# Altium footprint library EsteemPCB_SOM_Course_pcblib.PcbLib: 80 footprints (part 4 of 5)
Each footprint in its own frame and in the unit in brackets; x right, y up, seen from the top. Pads: shape width x height; smd on the part's side, far side on the other; paste and mask are expansions set on the pad; w line width, h text height; cw(c..) or ccw(c..) is an arc to the next point about the centre after c.
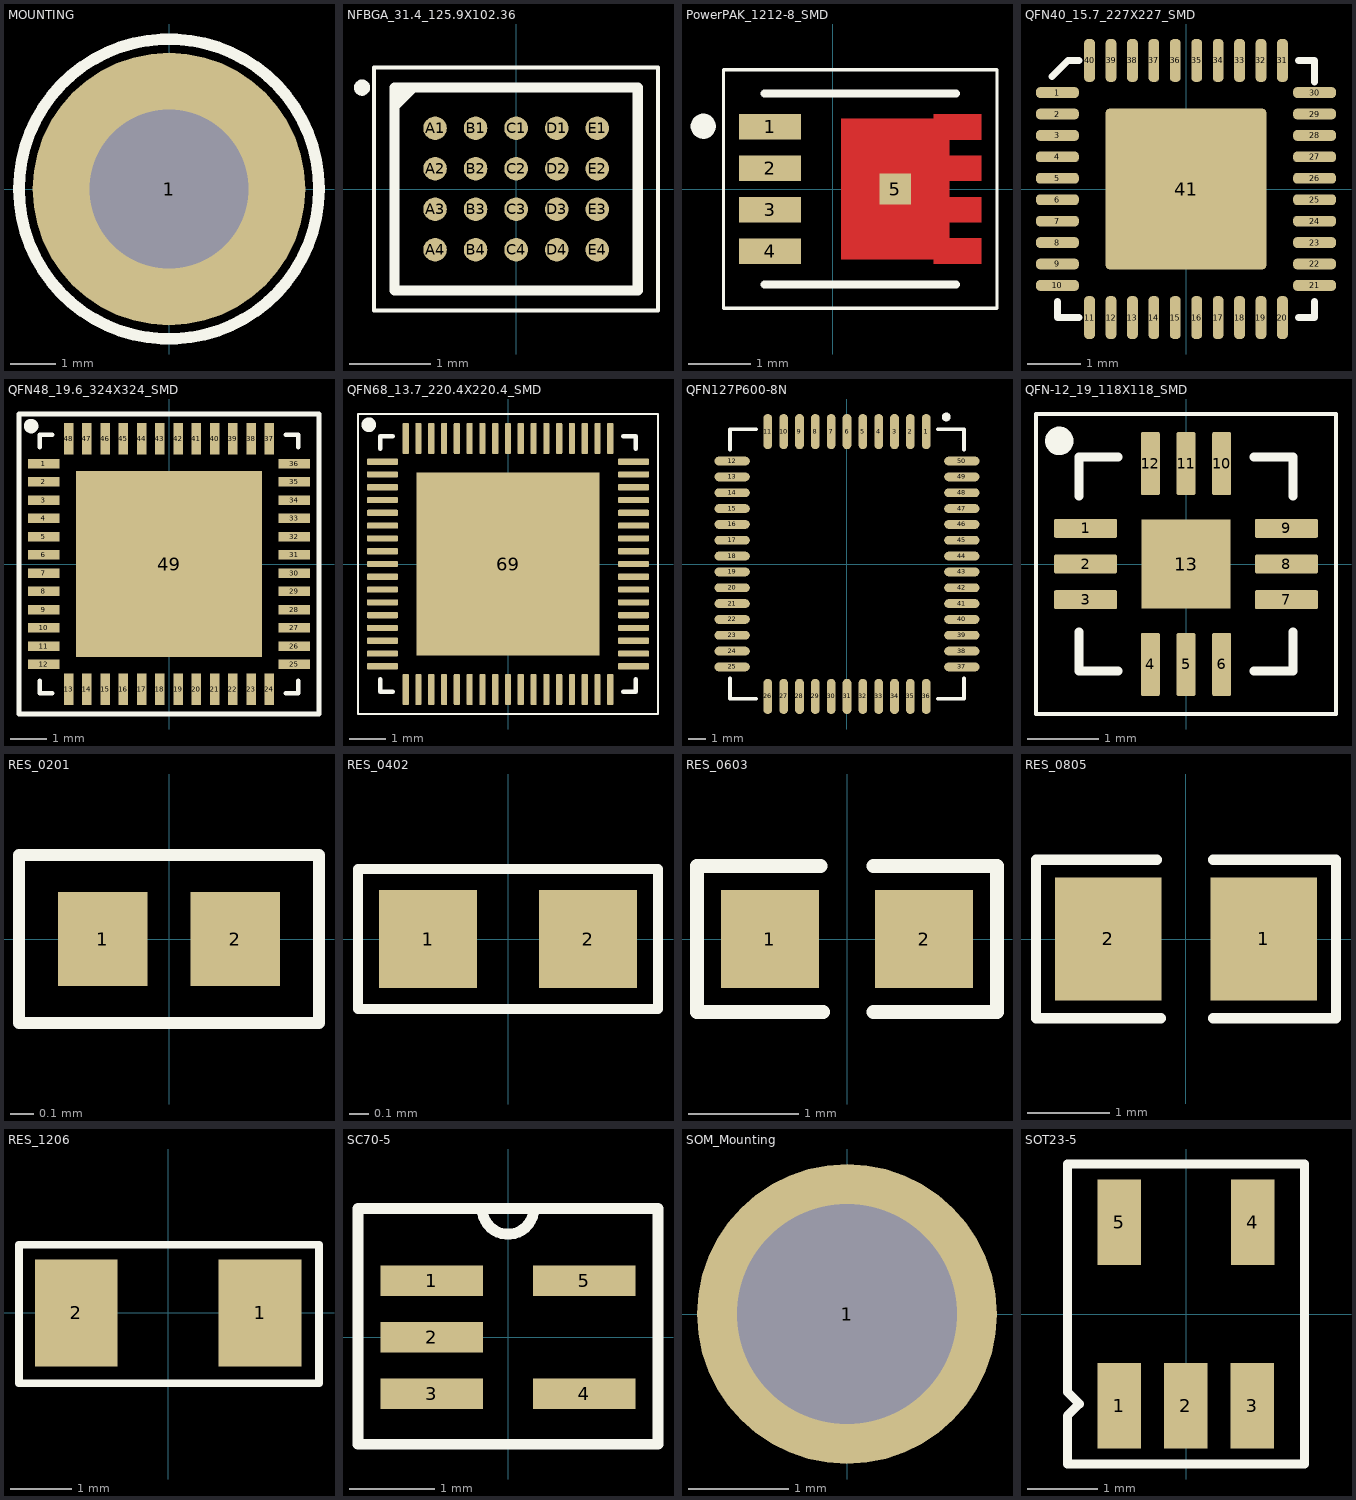
[diagram p3: the footprints below, top view; thin cyan lines are the x and y axes]

## MOUNTING [mm] "MH"
height 4.8
pads (1):
  round 6 hole 3.5: 1(0,0)
Top Overlay:
  circle w0.254: c0,0 r3.3
3D body "093108__3__5-mattssons.step": height 4.24, standoff -2.76, extent -2.998,-2.75 2.998,2.75

## NFBGA_31.4_125.9X102.36 [mm] "BGA, 20-Leads, Body 3.00x2.50mmx0.80mm, Pitch 0.50mm"
height 0.8
pads (20):
  round 0.29 smd: A1(-1,0.75) A2(-1,0.25) A3(-1,-0.25) A4(-1,-0.75) B1(-0.5,0.75) B2(-0.5,0.25) B3(-0.5,-0.25) B4(-0.5,-0.75) C1(0,0.75) C2(0,0.25) C3(0,-0.25) C4(0,-0.75) D1(0.5,0.75) D2(0.5,0.25) D3(0.5,-0.25) D4(0.5,-0.75) E1(1,0.75) E2(1,0.25) E3(1,-0.25) E4(1,-0.75)
Top Overlay:
  circle w0.1: c-1.9,1.25 r0.05
  region: -1.271,1.25 -1.5,1.021 -1.5,1.25
  lines w0.05: -1.75,-1.5 -1.75,1.5 1.75,1.5 1.75,-1.5 -1.75,-1.5
  lines w0.125: -1.5,1.021 -1.271,1.25 ; -1.5,-1.25 -1.5,1.25 1.5,1.25 1.5,-1.25 -1.5,-1.25
3D body "NFBGA_31.4.step": height 0.8, standoff 0, extent -1.5,-1.25 1.5,1.25

## PowerPAK_1212-8_SMD [mm] "Mosfet"
pads (5):
  rect 0.99x0.405 smd: 1(-0.996,0.99) 2(-0.996,0.33) 3(-0.996,-0.33) 4(-0.996,-0.99)
  rect 0.5x0.5 smd paste-1 mask+0: 5(0.996,0)
Top Layer:
  region: 2.369,0.787 1.859,0.787 1.859,0.533 2.369,0.533 2.369,0.128 1.859,0.128 1.859,-0.128 2.369,-0.128 2.369,-0.533 1.859,-0.533 1.859,-0.787 2.369,-0.787 2.369,-1.195 1.609,-1.195 1.609,-1.118 0.134,-1.118 0.134,1.118 1.609,1.118 1.609,1.195 2.369,1.195
Top Overlay:
  circle w0.2: c-2.061,1 r0.1
  lines w0.05: -1.741,-1.9 -1.741,1.9 2.619,1.9 2.619,-1.9 -1.741,-1.9
  lines w0.127: -1.086,-1.525 1.964,-1.525 ; -1.086,1.525 1.964,1.525
Top Paste:
  region: 1.542,-0.707 0.45,-0.707 0.45,0.707 1.542,0.707
Top Solder:
  region: 2.469,0.687 1.959,0.687 1.959,0.633 2.469,0.633 2.469,0.028 1.959,0.028 1.959,-0.028 2.469,-0.028 2.469,-0.633 1.959,-0.633 1.959,-0.687 2.469,-0.687 2.469,-1.292 1.509,-1.292 1.509,-1.218 0.034,-1.218 0.034,1.218 1.509,1.218 1.509,1.292 2.469,1.292
3D body "User Library-PowerPAK 1212-8-1.step": height 1.05, standoff 0.01, extent -1.16,-1.675 2.14,1.625

## QFN40_15.7_227X227_SMD [mm] "QFN Package"
pads (41):
  rrect75% 0.8x0.2 smd mask+0.076: 1(-2.4,1.8) 2(-2.4,1.4) 3(-2.4,1) 4(-2.4,0.6) 5(-2.4,0.2) 6(-2.4,-0.2) 7(-2.4,-0.6) 8(-2.4,-1) 9(-2.4,-1.4) 10(-2.4,-1.8) 21(2.4,-1.8) 22(2.4,-1.4) 23(2.4,-1) 24(2.4,-0.6) 25(2.4,-0.2) 26(2.4,0.2) 27(2.4,0.6) 28(2.4,1) 29(2.4,1.4) 30(2.4,1.8)
  rrect75% 0.2x0.8 smd mask+0.076: 11(-1.8,-2.4) 12(-1.4,-2.4) 13(-1,-2.4) 14(-0.6,-2.4) 15(-0.2,-2.4) 16(0.2,-2.4) 17(0.6,-2.4) 18(1,-2.4) 19(1.4,-2.4) 20(1.8,-2.4) 31(1.8,2.4) 32(1.4,2.4) 33(1,2.4) 34(0.6,2.4) 35(0.2,2.4) 36(-0.2,2.4) 37(-0.6,2.4) 38(-1,2.4) 39(-1.4,2.4) 40(-1.8,2.4)
  rrect5% 3x3 smd paste-3 mask+0.076: 41(0,0)
Top Overlay:
  lines w0.127: -2.5,2.1 -2.2,2.4 -2,2.4 ; -2.4,-2.1 -2.4,-2.4 -2,-2.4 ; 2.1,-2.4 2.4,-2.4 2.4,-2.1 ; 2.1,2.4 2.4,2.4 2.4,2
3D body "User Library-QFN 40 5x5.step": height 0.74, standoff -0.01, extent -2.501,-2.501 2.501,2.501

## QFN48_19.6_324X324_SMD [mm] "QFN Package"
pads (49):
  rect 0.86x0.26 smd: 1(-3.435,2.75) 2(-3.435,2.25) 3(-3.435,1.75) 4(-3.435,1.25) 5(-3.435,0.75) 6(-3.435,0.25) 7(-3.435,-0.25) 8(-3.435,-0.75) 9(-3.435,-1.25) 10(-3.435,-1.75) 11(-3.435,-2.25) 12(-3.435,-2.75) 25(3.435,-2.75) 26(3.435,-2.25) 27(3.435,-1.75) 28(3.435,-1.25) 29(3.435,-0.75) 30(3.435,-0.25) 31(3.435,0.25) 32(3.435,0.75) 33(3.435,1.25) 34(3.435,1.75) 35(3.435,2.25) 36(3.435,2.75)
  rect 0.26x0.86 smd: 13(-2.75,-3.435) 14(-2.25,-3.435) 15(-1.75,-3.435) 16(-1.25,-3.435) 17(-0.75,-3.435) 18(-0.25,-3.435) 19(0.25,-3.435) 20(0.75,-3.435) 21(1.25,-3.435) 22(1.75,-3.435) 23(2.25,-3.435) 24(2.75,-3.435) 37(2.75,3.435) 38(2.25,3.435) 39(1.75,3.435) 40(1.25,3.435) 41(0.75,3.435) 42(0.25,3.435) 43(-0.25,3.435) 44(-0.75,3.435) 45(-1.25,3.435) 46(-1.75,3.435) 47(-2.25,3.435) 48(-2.75,3.435)
  rect 5.1x5.1 smd: 49(0,0)
Top Overlay:
  circle w0.2: c-3.785,3.785 r0.1
  lines w0.127: -3.55,-3.2 -3.55,-3.55 -3.2,-3.55 ; -3.55,3.2 -3.55,3.55 -3.2,3.55 ; 3.2,-3.55 3.55,-3.55 3.55,-3.2 ; 3.2,3.55 3.55,3.55 3.55,3.2 ; -4.115,-4.115 4.115,-4.115 4.115,4.115 -4.115,4.115 -4.115,-4.115
Top Paste:
  region: -2.085,2.085 -0.465,2.085 -0.465,0.465 -2.085,0.465
  region: 0.465,2.085 2.085,2.085 2.085,0.465 0.465,0.465
  region: -2.085,-0.465 -0.465,-0.465 -0.465,-2.085 -2.085,-2.085
  region: 0.465,-0.465 2.085,-0.465 2.085,-2.085 0.465,-2.085

## QFN68_13.7_220.4X220.4_SMD [mm] "QFN Package"
height 0.8
pads (69):
  rrect25% 0.84x0.17 smd mask+0.076: 1(-3.435,2.8) 2(-3.435,2.45) 3(-3.435,2.1) 4(-3.435,1.75) 5(-3.435,1.4) 6(-3.435,1.05) 7(-3.435,0.7) 8(-3.435,0.35) 9(-3.435,0) 10(-3.435,-0.35) 11(-3.435,-0.7) 12(-3.435,-1.05) 13(-3.435,-1.4) 14(-3.435,-1.75) 15(-3.435,-2.1) 16(-3.435,-2.45) 17(-3.435,-2.8) 35(3.435,-2.8) 36(3.435,-2.45) 37(3.435,-2.1) 38(3.435,-1.75) 39(3.435,-1.4) 40(3.435,-1.05) 41(3.435,-0.7) 42(3.435,-0.35) 43(3.435,0) 44(3.435,0.35) 45(3.435,0.7) 46(3.435,1.05) 47(3.435,1.4) 48(3.435,1.75) 49(3.435,2.1) 50(3.435,2.45) 51(3.435,2.8)
  rrect25% 0.17x0.84 smd mask+0.076: 18(-2.8,-3.435) 19(-2.45,-3.435) 20(-2.1,-3.435) 21(-1.75,-3.435) 22(-1.4,-3.435) 23(-1.05,-3.435) 24(-0.7,-3.435) 25(-0.35,-3.435) 26(0,-3.435) 27(0.35,-3.435) 28(0.7,-3.435) 29(1.05,-3.435) 30(1.4,-3.435) 31(1.75,-3.435) 32(2.1,-3.435) 33(2.45,-3.435) 34(2.8,-3.435) 52(2.8,3.435) 53(2.45,3.435) 54(2.1,3.435) 55(1.75,3.435) 56(1.4,3.435) 57(1.05,3.435) 58(0.7,3.435) 59(0.35,3.435) 60(0,3.435) 61(-0.35,3.435) 62(-0.7,3.435) 63(-1.05,3.435) 64(-1.4,3.435) 65(-1.75,3.435) 66(-2.1,3.435) 67(-2.45,3.435) 68(-2.8,3.435)
  rect 5x5 smd paste-4 mask+0.076: 69(0,0)
Top Overlay:
  circle w0.2: c-3.81,3.81 r0.1
  lines w0.05: -4.105,-4.105 4.105,-4.105 4.105,4.105 -4.105,4.105 -4.105,-4.105
  lines w0.127: -3.5,-3.15 -3.5,-3.5 -3.15,-3.5 ; -3.5,3.15 -3.5,3.5 -3.15,3.5 ; 3.15,-3.5 3.5,-3.5 3.5,-3.15 ; 3.15,3.5 3.5,3.5 3.5,3.15
3D body "User Library-QFN 7x7 22L.step": height 1.3, standoff 0.01, extent -3.505,-3.505 3.505,3.505

## QFN127P600-8N [mm] "QFN Package"
height 1.5
pads (50):
  oval 0.5x2 smd: 1(4.5,7.525) 2(3.6,7.525) 3(2.7,7.525) 4(1.8,7.525) 5(0.9,7.525) 6(0,7.525) 7(-0.9,7.525) 8(-1.8,7.525) 9(-2.7,7.525) 10(-3.6,7.525) 11(-4.5,7.525) 26(-4.5,-7.525) 27(-3.6,-7.525) 28(-2.7,-7.525) 29(-1.8,-7.525) 30(-0.9,-7.525) 31(0,-7.525) 32(0.9,-7.525) 33(1.8,-7.525) 34(2.7,-7.525) 35(3.6,-7.525) 36(4.5,-7.525)
  oval 2x0.5 smd: 12(-6.525,5.85) 13(-6.525,4.95) 14(-6.525,4.05) 15(-6.525,3.15) 16(-6.525,2.25) 17(-6.525,1.35) 18(-6.525,0.45) 19(-6.525,-0.45) 20(-6.525,-1.35) 21(-6.525,-2.25) 22(-6.525,-3.15) 23(-6.525,-4.05) 24(-6.525,-4.95) 25(-6.525,-5.85) 37(6.525,-5.85) 38(6.525,-4.95) 39(6.525,-4.05) 40(6.525,-3.15) 41(6.525,-2.25) 42(6.525,-1.35) 43(6.525,-0.45) 44(6.525,0.45) 45(6.525,1.35) 46(6.525,2.25) 47(6.525,3.15) 48(6.525,4.05) 49(6.525,4.95) 50(6.525,5.85)
Top Overlay:
  circle w0.25: c5.639,8.357 r0.125
  lines w0.2: -6.65,-6.5 -6.65,-7.65 -5.15,-7.65 ; -6.65,6.5 -6.65,7.65 -5.15,7.65 ; 5.15,-7.65 6.65,-7.65 6.65,-6.5 ; 5.15,7.65 6.65,7.65 6.65,6.5
3D body "QFN127P600-8N.step": height 1.5, standoff 0, extent -6.51,-7.51 6.51,7.51

## QFN-12_19_118X118_SMD [mm] "QFN Package"
pads (13):
  rrect25% 0.89x0.27 smd: 1(-1.41,0.5) 2(-1.41,0) 3(-1.41,-0.5) 7(1.41,-0.5) 8(1.41,0) 9(1.41,0.5)
  rrect25% 0.27x0.89 smd: 4(-0.5,-1.41) 5(0,-1.41) 6(0.5,-1.41) 10(0.5,1.41) 11(0,1.41) 12(-0.5,1.41)
  rect 1.25x1.25 smd paste-2: 13(0,0)
Top Overlay:
  circle w0.2: c-1.778,1.727 r0.1
  lines w0.05: -2.105,-2.105 -2.105,2.105 2.105,2.105 2.105,-2.105 -2.105,-2.105
  lines w0.127: -1.5,-0.955 -1.5,-1.5 -0.955,-1.5 ; -1.5,0.955 -1.5,1.5 -0.955,1.5 ; 0.955,-1.5 1.5,-1.5 1.5,-0.955 ; 0.955,1.5 1.5,1.5 1.5,0.955
Top Paste:
  region: 0.4,-0.4 -0.4,-0.4 -0.4,0.4 0.4,0.4
3D body "User Library-HVQFN-12.step": height 1, standoff -0.01, extent -1.5,-1.5 1.5,1.5

## RES_0201 [mm]
pads (2):
  rect 0.38x0.4 smd: 1(-0.28,0) 2(0.28,0)
Top Overlay:
  lines w0.05: -0.635,-0.356 -0.635,0.356 0.635,0.356 0.635,-0.356 -0.635,-0.356
3D body "User Library-RES_0603-0201.step": height 0.35, standoff 0.01, extent -0.34,-0.165 0.34,0.165

## RES_0402 [mm]
pads (2):
  rect 0.5x0.5 smd mask+0.051: 1(-0.406,0) 2(0.406,0)
Top Overlay:
  lines w0.05: -0.762,-0.356 0.762,-0.356 0.762,0.356 -0.762,0.356 -0.762,-0.356
3D body "res0402-1.step": height 0.3, standoff 0, extent -0.5,-0.25 0.5,0.25

## RES_0603 [mil] "CASE: 0603"
height 19.68
pads (2):
  rect 35x35 smd mask+3: 1(-27.5,0) 2(27.5,0)
Top Overlay:
  lines w5: -9.5,26 -53.5,26 -53.5,-26 -8.5,-26 ; 9.5,-26 53.5,-26 53.5,26 9.5,26
3D body "User Library-RES_0603-1.STEP": height 18, standoff -0.11, extent -31.5,-15.86 31.49,15.64

## RES_0805 [mm] "Resister"
height 0.65
pads (2):
  rect 1.3x1.5 smd mask+0.076: 1(0.95,0) 2(-0.95,0)
Top Overlay:
  lines w0.127: -0.356,0.965 -1.829,0.965 -1.829,-0.965 -0.305,-0.965 ; 0.33,-0.965 1.829,-0.965 1.829,0.965 0.33,0.965
3D body "RES0805.stp": height 0.5, standoff 0, extent -1,-0.63 1,0.62

## RES_1206 [mm] "CASE: 1206"
height 0.7
pads (2):
  rect 1.35x1.75 smd: 1(1.5,0) 2(-1.5,0)
Top Overlay:
  lines w0.127: -2.437,-1.15 2.463,-1.15 2.463,1.112 -2.437,1.112 -2.437,-1.15
3D body "RES1206.stp": height 0.55, standoff 0, extent -1.55,-0.772 1.55,0.78

## SC70-5 [mil]
pads (5):
  rect 47.24x14 smd: 1(-35,26) 2(-35,0) 3(-35,-26) 4(35,-26) 5(35,26)
Top Overlay:
  lines w5: -11.81,59.06 ccw(c0,59.06) 11.81,59.06 ; -68.9,-49.21 -68.9,59.06 68.9,59.06 68.9,-49.21 -68.9,-49.21
3D body "User Library-SC70-5-1.step": height 37.4, standoff 0, extent -41.33,-39.37 41.34,39.37

## SOM_Mounting [mm]
pads (1):
  round 3 hole 2.2: 1(0,0)

## SOT23-5 [mm] "CASE: SOT"
height 1.1
pads (5):
  rect 0.62x1.22 smd mask+0.076: 1(-0.953,-1.31) 2(-0.002,-1.31) 3(0.947,-1.31) 4(0.953,1.31) 5(-0.953,1.31)
Top Overlay:
  lines w0.127: -1.689,-2.137 -1.689,-1.452 -1.519,-1.281 -1.689,-1.111 -1.689,2.137 1.689,2.137 1.689,-2.137 -1.689,-2.137
3D body "User Library-SOT-23-5.STEP": height 1.41, standoff -0.05, extent -1.5,-1.5 1.5,1.5